# EAGLE library part PDDL2450 (library thanics_robotics)
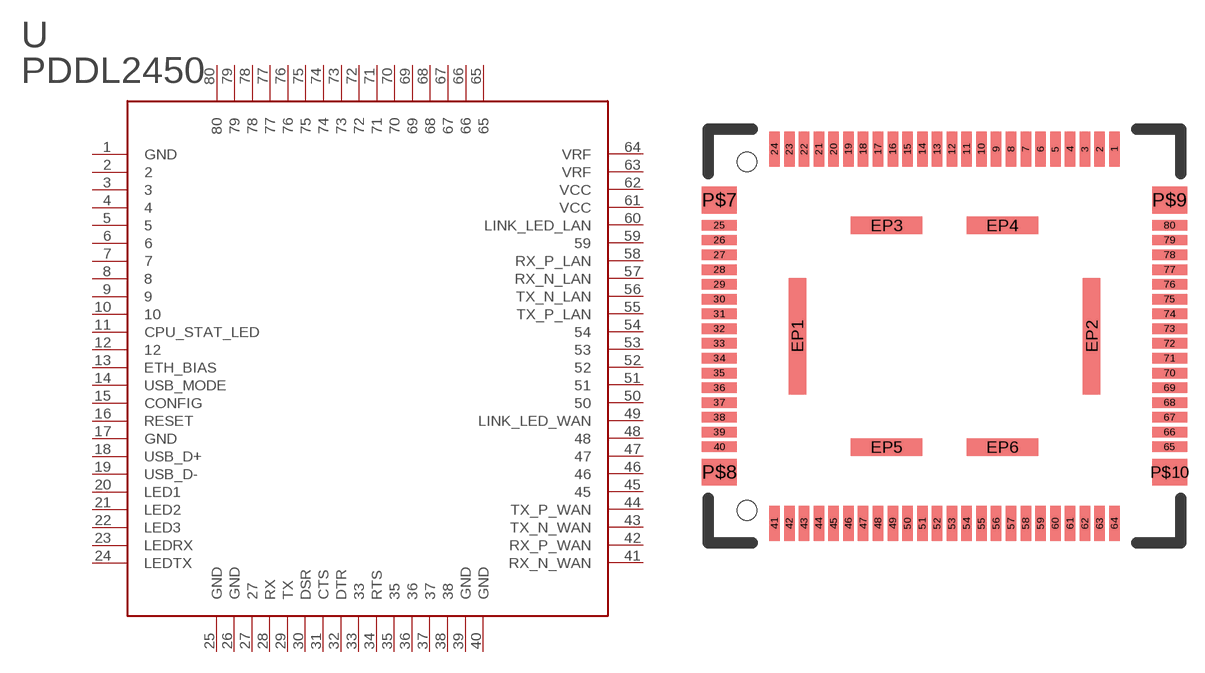
[diagram p37: symbol with the pads of PDDL2450_SOCKET; footprint PDDL2450_SOCKET]

Designator prefix -

## PDDL2450  [PDDL2450_SOCKET]
1  GND
2  2
3  3
4  4
5  5
6  6
7  7
8  8
9  9
10  10
11  CPU_STAT_LED
12  12
13  ETH_BIAS
14  USB_MODE
15  CONFIG
16  RESET
17  GND
18  USB_D+
19  USB_D-
20  LED1
21  LED2
22  LED3
23  LEDRX
24  LEDTX
25  GND
26  GND
27  27
28  RX
29  TX
30  DSR
31  CTS
32  DTR
33  33
34  RTS
35  35
36  36
37  37
38  38
39  GND
40  GND
41  RX_N_WAN
42  RX_P_WAN
43  TX_N_WAN
44  TX_P_WAN
45  45
46  46
47  47
48  48
49  LINK_LED_WAN
50  50
51  51
52  52
53  53
54  54
55  TX_P_LAN
56  TX_N_LAN
57  RX_N_LAN
58  RX_P_LAN
59  59
60  LINK_LED_LAN
61  VCC
62  VCC
63  VRF
64  VRF
65  65
66  66
67  67
68  68
69  69
70  70
71  71
72  72
73  73
74  74
75  75
76  76
77  77
78  78
79  79
80  80

## Footprint PDDL2450_SOCKET (pad centres in mm)
smd 0.9 x 3: 1 14.605,16.09; 2 13.335,16.09; 3 12.065,16.09; 4 10.795,16.09; 5 9.525,16.09; 6 8.255,16.09; 7 6.985,16.09; 8 5.715,16.09; 9 4.445,16.09; 10 3.175,16.09; 11 1.905,16.09; 12 0.635,16.09; 13 -0.635,16.09; 14 -1.905,16.09; 15 -3.175,16.09; 16 -4.445,16.09; 17 -5.715,16.09; 18 -6.985,16.09; 19 -8.255,16.09; 20 -9.525,16.09; 21 -10.795,16.09; 22 -12.065,16.09; 23 -13.335,16.09; 24 -14.605,16.09; 41 -14.605,-16.09; 42 -13.335,-16.09; 43 -12.065,-16.09; 44 -10.795,-16.09; 45 -9.525,-16.09; 46 -8.255,-16.09; 47 -6.985,-16.09; 48 -5.715,-16.09; 49 -4.445,-16.09; 50 -3.175,-16.09; 51 -1.905,-16.09; 52 -0.635,-16.09; 53 0.635,-16.09; 54 1.905,-16.09; 55 3.175,-16.09; 56 4.445,-16.09; 57 5.715,-16.09; 58 6.985,-16.09; 59 8.255,-16.09; 60 9.525,-16.09; 61 10.795,-16.09; 62 12.065,-16.09; 63 13.335,-16.09; 64 14.605,-16.09
smd 3 x 0.9: 25 -19.34,9.53; 26 -19.34,8.26; 27 -19.34,6.99; 28 -19.34,5.72; 29 -19.34,4.45; 30 -19.34,3.18; 31 -19.34,1.91; 32 -19.34,0.64; 33 -19.34,-0.63; 34 -19.34,-1.9; 35 -19.34,-3.17; 36 -19.34,-4.44; 37 -19.34,-5.71; 38 -19.34,-6.98; 39 -19.34,-8.25; 40 -19.34,-9.52; 65 19.34,-9.52; 66 19.34,-8.25; 67 19.34,-6.98; 68 19.34,-5.71; 69 19.34,-4.44; 70 19.34,-3.17; 71 19.34,-1.9; 72 19.34,-0.63; 73 19.34,0.64; 74 19.34,1.91; 75 19.34,3.18; 76 19.34,4.45; 77 19.34,5.72; 78 19.34,6.99; 79 19.34,8.26; 80 19.34,9.53
smd 1.5 x 10: EP1 -12.65,0; EP2 12.65,0
smd 6.15 x 1.5: EP3 -4.975,9.53; EP4 4.975,9.53; EP5 -4.975,-9.53; EP6 4.975,-9.53
smd 3 x 2.3: P$7 -19.34,11.7; P$8 -19.34,-11.7; P$9 19.34,11.7; P$10 19.34,-11.7
hole 1.7 at -16.97,14.985
hole 1.7 at -16.97,-14.985